# EAGLE library part DCF77 (library MyComponents)
EM6 DCF-Empfangsmodul
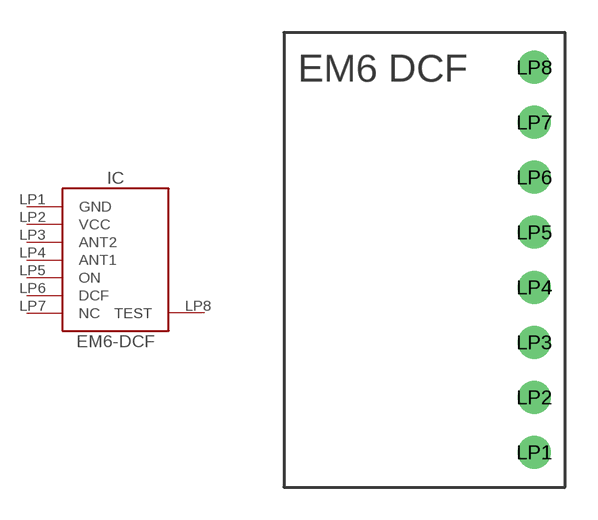
[diagram p3: symbol with the pads of DCF77; footprint DCF77]

Designator prefix IC

## DCF77  [DCF77]
LP1  GND  pwr
LP2  VCC  sup
LP3  ANT2
LP4  ANT1
LP5  ON
LP6  DCF
LP7  NC
LP8  TEST

## Footprint DCF77 (pad centres in mm)
DCF-Empfangsmodul DCF-2
drill 1.016: LP1 5.08,-8.89; LP2 5.08,-6.35; LP3 5.08,-3.81; LP4 5.08,-1.27; LP5 5.08,1.27; LP6 5.08,3.81; LP7 5.08,6.35; LP8 5.08,8.89